# Altium footprint library ANTENAS.PcbLib: 3 footprints
Each footprint in its own frame and in the unit in brackets; x right, y up, seen from the top. Pads: shape width x height; smd on the part's side, far side on the other; paste and mask are expansions set on the pad; w line width, h text height; cw(c..) or ccw(c..) is an arc to the next point about the centre after c.
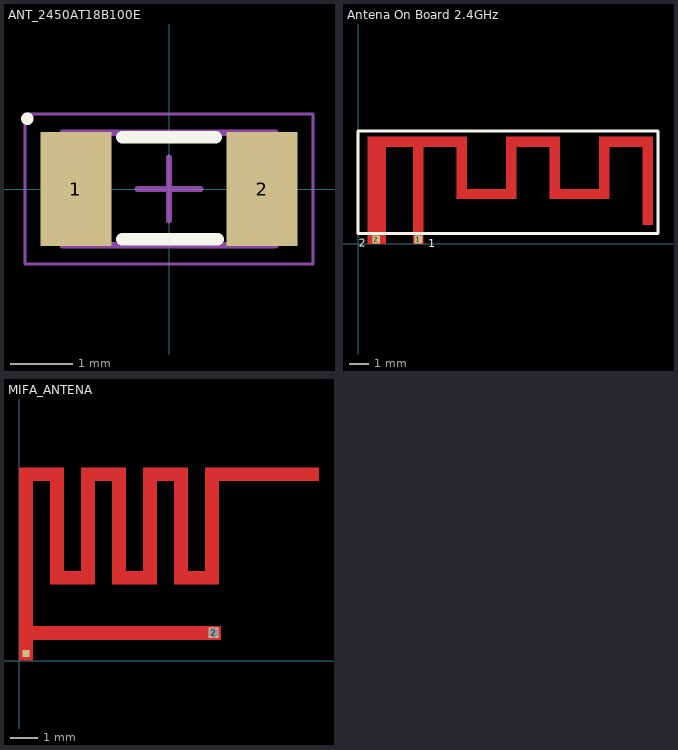
[diagram p0: the footprints below, top view; thin cyan lines are the x and y axes]

## ANT_2450AT18B100E [mm] "ANTENA SMD, 2-Leads, Body 3,20x1,60mm, IPC Medium Density"
height 1.4
pads (2):
  rect 1.13x1.82 smd: 1(-1.485,0) 2(1.485,0)
Top Overlay:
  circle w0.1: c-2.262,1.122 r0.05
  lines w0.2: -0.75,-0.8 0.775,-0.8 ; -0.75,0.825 0.75,0.825
Mechanical 13:
  lines w0.1: -1.7,-0.9 1.7,-0.9 1.7,0.9 -1.7,0.9 -1.7,-0.9
Mechanical 15:
  lines w0.05: -2.3,-1.2 2.3,-1.2 2.3,1.2 -2.3,1.2 -2.3,-1.2
  lines w0.1: -0.5,0 0.5,0 ; 0,-0.5 0,0.5
3D body: height 1.4, standoff 0, extent 1.2,-0.9 1.7,0.9
3D body: height 1.4, standoff 0, extent -1.7,-0.9 -1.2,0.9
3D body: height 1.4, standoff 0, extent -1.2,-0.9 1.2,0.9

## Antena On Board 2.4GHz [mm] "Small Size 2.4 GHz PCB antenna"
pads (2):
  rect 0.4x0.4 smd: 1(3.05,0.2) 2(0.925,0.2)
Top Layer:
  region: 14.9,0.96 14.4,0.96 14.4,5.4 14.9,5.4
  region: 12.2,2.26 12.7,2.26 12.7,5.4 12.2,5.4
  region: 14.9,4.9 14.9,5.4 12.2,5.4 12.2,4.9
  region: 9.7,2.26 10.2,2.26 10.2,5.4 9.7,5.4
  region: 12.7,2.26 12.7,2.76 9.7,2.76 9.7,2.26
  region: 10.2,4.9 10.2,5.4 7.5,5.4 7.5,4.9
  region: 7.5,2.26 8,2.26 8,5.4 7.5,5.4
  region: 8,2.26 8,2.76 5,2.76 5,2.26
  region: 5,2.26 5.5,2.26 5.5,5.4 5,5.4
  region: 2.8,0 3.3,0 3.3,5.4 2.8,5.4
  region: 5.5,4.9 5.5,5.4 0.5,5.4 0.5,4.9
  region: 0.5,0 1.4,0 1.4,5.4 0.5,5.4
Top Overlay:
  lines w0.15: 0,0.5 0,5.7 15.175,5.7 15.175,0.5 0,0.5
  text "2" at 0.05,-0.15 h0.4
  text "1" at 3.55,-0.175 h0.4

## MIFA_ANTENA [mil]
pads (2):
  rect 10x10 smd: 1(10,10)
  rect 15x15 hole 15 mask+4: 2(282.1,40.17)
Top Layer:
  rectangle: 0,30 293,50
  rectangle: 270,260 435,280
  rectangle: 270,110 290,280
  rectangle: 225,110 290,130
  rectangle: 225,110 245,280
  rectangle: 180,260 245,280
  rectangle: 180,110 200,280
  rectangle: 135,110 200,130
  rectangle: 135,110 155,280
  rectangle: 90,260 155,280
  rectangle: 90,110 110,280
  rectangle: 45,110 110,130
  rectangle: 45,110 65,280
  rectangle: 0,260 65,280
  rectangle: 0,0 20,280